# Altium footprint library Connector_PinHeader_2.54mm.PcbLib: 278 footprints (part 18 of 18)
Each footprint in its own frame and in the unit in brackets; x right, y up, seen from the top. Pads: shape width x height; smd on the part's side, far side on the other; paste and mask are expansions set on the pad; w line width, h text height; cw(c..) or ccw(c..) is an arc to the next point about the centre after c.
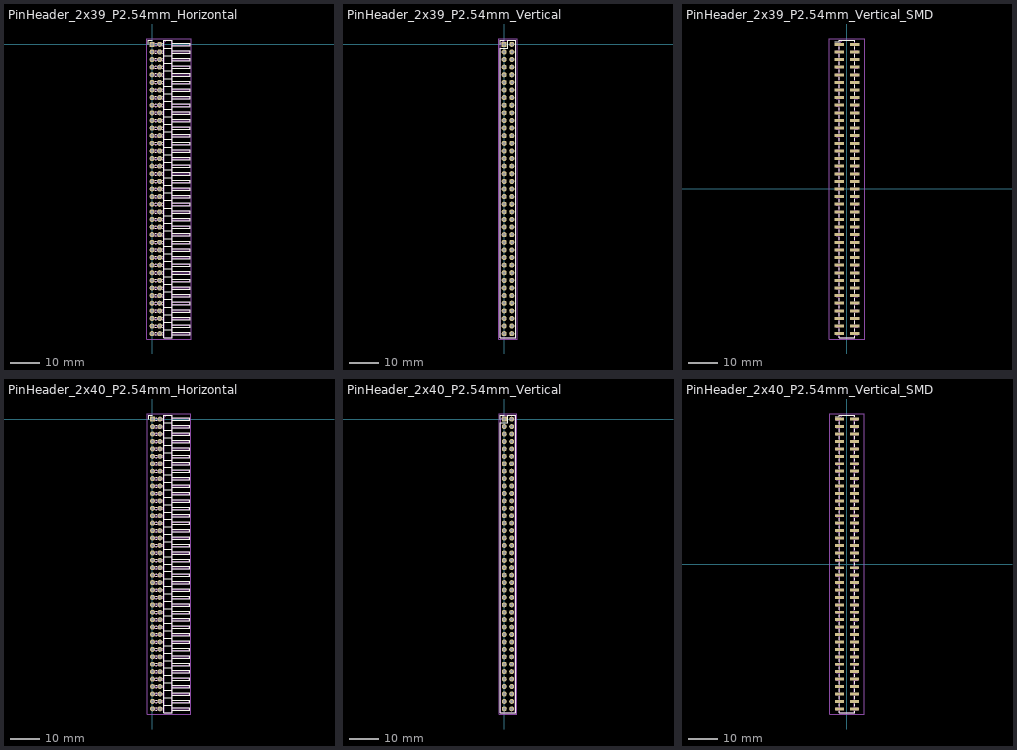
[diagram p17: the footprints below, top view; thin cyan lines are the x and y axes]

## PinHeader_2x39_P2.54mm_Horizontal [mm]
pads (78):
  rect 1.7x1.7 hole 1: 1(0,0)
  round 1.7 hole 1: 2(2.54,0) 3(0,-2.54) 4(2.54,-2.54) 5(0,-5.08) 6(2.54,-5.08) 7(0,-7.62) 8(2.54,-7.62) 9(0,-10.16) 10(2.54,-10.16) 11(0,-12.7) 12(2.54,-12.7) 13(0,-15.24) 14(2.54,-15.24) 15(0,-17.78) 16(2.54,-17.78) 17(0,-20.32) 18(2.54,-20.32) 19(0,-22.86) 20(2.54,-22.86) 21(0,-25.4) 22(2.54,-25.4) 23(0,-27.94) 24(2.54,-27.94) 25(0,-30.48) 26(2.54,-30.48) 27(0,-33.02) 28(2.54,-33.02) 29(0,-35.56) 30(2.54,-35.56) 31(0,-38.1) 32(2.54,-38.1) 33(0,-40.64) 34(2.54,-40.64) 35(0,-43.18) 36(2.54,-43.18) 37(0,-45.72) 38(2.54,-45.72) 39(0,-48.26) 40(2.54,-48.26) 41(0,-50.8) 42(2.54,-50.8) 43(0,-53.34) 44(2.54,-53.34) 45(0,-55.88) 46(2.54,-55.88) 47(0,-58.42) 48(2.54,-58.42) 49(0,-60.96) 50(2.54,-60.96) 51(0,-63.5) 52(2.54,-63.5) 53(0,-66.04) 54(2.54,-66.04) 55(0,-68.58) 56(2.54,-68.58) 57(0,-71.12) 58(2.54,-71.12) 59(0,-73.66) 60(2.54,-73.66) 61(0,-76.2) 62(2.54,-76.2) 63(0,-78.74) 64(2.54,-78.74) 65(0,-81.28) 66(2.54,-81.28) 67(0,-83.82) 68(2.54,-83.82) 69(0,-86.36) 70(2.54,-86.36) 71(0,-88.9) 72(2.54,-88.9) 73(0,-91.44) 74(2.54,-91.44) 75(0,-93.98) 76(2.54,-93.98) 77(0,-96.52) 78(2.54,-96.52)
F.SilkS:
  drawing of 318 lines, arcs and shapes, not listed
Top Assembly:
  drawing of 239 lines, arcs and shapes, not listed
  text "'.Designator'" at 6.15,-52.307 h1
Top Courtyard:
  lines w0.254: -1.77,-98.29 13.09,-98.29 13.09,1.77 -1.77,1.77 -1.77,-98.29
Top Designator:
  text ".Designator" at -1.958,-48.768 h1.52

## PinHeader_2x39_P2.54mm_Vertical [mm]
pads (78):
  rect 1.7x1.7 hole 1: 1(0,0)
  round 1.7 hole 1: 2(2.54,0) 3(0,-2.54) 4(2.54,-2.54) 5(0,-5.08) 6(2.54,-5.08) 7(0,-7.62) 8(2.54,-7.62) 9(0,-10.16) 10(2.54,-10.16) 11(0,-12.7) 12(2.54,-12.7) 13(0,-15.24) 14(2.54,-15.24) 15(0,-17.78) 16(2.54,-17.78) 17(0,-20.32) 18(2.54,-20.32) 19(0,-22.86) 20(2.54,-22.86) 21(0,-25.4) 22(2.54,-25.4) 23(0,-27.94) 24(2.54,-27.94) 25(0,-30.48) 26(2.54,-30.48) 27(0,-33.02) 28(2.54,-33.02) 29(0,-35.56) 30(2.54,-35.56) 31(0,-38.1) 32(2.54,-38.1) 33(0,-40.64) 34(2.54,-40.64) 35(0,-43.18) 36(2.54,-43.18) 37(0,-45.72) 38(2.54,-45.72) 39(0,-48.26) 40(2.54,-48.26) 41(0,-50.8) 42(2.54,-50.8) 43(0,-53.34) 44(2.54,-53.34) 45(0,-55.88) 46(2.54,-55.88) 47(0,-58.42) 48(2.54,-58.42) 49(0,-60.96) 50(2.54,-60.96) 51(0,-63.5) 52(2.54,-63.5) 53(0,-66.04) 54(2.54,-66.04) 55(0,-68.58) 56(2.54,-68.58) 57(0,-71.12) 58(2.54,-71.12) 59(0,-73.66) 60(2.54,-73.66) 61(0,-76.2) 62(2.54,-76.2) 63(0,-78.74) 64(2.54,-78.74) 65(0,-81.28) 66(2.54,-81.28) 67(0,-83.82) 68(2.54,-83.82) 69(0,-86.36) 70(2.54,-86.36) 71(0,-88.9) 72(2.54,-88.9) 73(0,-91.44) 74(2.54,-91.44) 75(0,-93.98) 76(2.54,-93.98) 77(0,-96.52) 78(2.54,-96.52)
F.SilkS:
  lines w0.254: -1.38,0 -1.38,1.38 0,1.38 ; -1.38,-97.9 3.92,-97.9 3.92,1.38 1.27,1.38 1.27,-1.27 -1.38,-1.27 -1.38,-97.9
Top Assembly:
  lines w0.254: -1.27,-97.79 3.81,-97.79 3.81,1.27 0,1.27 -1.27,0 -1.27,-97.79
  text "'.Designator'" at 2.11,-52.307 h1
Top Courtyard:
  lines w0.254: -1.77,-98.29 4.32,-98.29 4.32,1.77 -1.77,1.77 -1.77,-98.29
Top Designator:
  text ".Designator" at -6.343,-48.768 h1.52

## PinHeader_2x39_P2.54mm_Vertical_SMD [mm]
pads (78):
  rect 3.15x1 smd: 1(-2.525,48.26) 2(2.525,48.26) 3(-2.525,45.72) 4(2.525,45.72) 5(-2.525,43.18) 6(2.525,43.18) 7(-2.525,40.64) 8(2.525,40.64) 9(-2.525,38.1) 10(2.525,38.1) 11(-2.525,35.56) 12(2.525,35.56) 13(-2.525,33.02) 14(2.525,33.02) 15(-2.525,30.48) 16(2.525,30.48) 17(-2.525,27.94) 18(2.525,27.94) 19(-2.525,25.4) 20(2.525,25.4) 21(-2.525,22.86) 22(2.525,22.86) 23(-2.525,20.32) 24(2.525,20.32) 25(-2.525,17.78) 26(2.525,17.78) 27(-2.525,15.24) 28(2.525,15.24) 29(-2.525,12.7) 30(2.525,12.7) 31(-2.525,10.16) 32(2.525,10.16) 33(-2.525,7.62) 34(2.525,7.62) 35(-2.525,5.08) 36(2.525,5.08) 37(-2.525,2.54) 38(2.525,2.54) 39(-2.525,0) 40(2.525,0) 41(-2.525,-2.54) 42(2.525,-2.54) 43(-2.525,-5.08) 44(2.525,-5.08) 45(-2.525,-7.62) 46(2.525,-7.62) 47(-2.525,-10.16) 48(2.525,-10.16) 49(-2.525,-12.7) 50(2.525,-12.7) 51(-2.525,-15.24) 52(2.525,-15.24) 53(-2.525,-17.78) 54(2.525,-17.78) 55(-2.525,-20.32) 56(2.525,-20.32) 57(-2.525,-22.86) 58(2.525,-22.86) 59(-2.525,-25.4) 60(2.525,-25.4) 61(-2.525,-27.94) 62(2.525,-27.94) 63(-2.525,-30.48) 64(2.525,-30.48) 65(-2.525,-33.02) 66(2.525,-33.02) 67(-2.525,-35.56) 68(2.525,-35.56) 69(-2.525,-38.1) 70(2.525,-38.1) 71(-2.525,-40.64) 72(2.525,-40.64) 73(-2.525,-43.18) 74(2.525,-43.18) 75(-2.525,-45.72) 76(2.525,-45.72) 77(-2.525,-48.26) 78(2.525,-48.26)
F.SilkS:
  lines w0.254: -4.04,49.07 -2.65,49.07 -2.65,49.64 2.65,49.64 2.65,49.07 ; -2.65,-49.07 -2.65,-49.64 2.65,-49.64 2.65,-49.07 ; -2.65,-47.45 -2.65,-46.53 ; -2.65,-44.91 -2.65,-43.99 ; -2.65,-42.37 -2.65,-41.45 ; -2.65,-39.83 -2.65,-38.91 ; -2.65,-37.29 -2.65,-36.37 ; -2.65,-34.75 -2.65,-33.83 ; -2.65,-32.21 -2.65,-31.29 ; -2.65,-29.67 -2.65,-28.75 ; -2.65,-27.13 -2.65,-26.21 ; -2.65,-24.59 -2.65,-23.67 ; -2.65,-22.05 -2.65,-21.13 ; -2.65,-19.51 -2.65,-18.59 ; -2.65,-16.97 -2.65,-16.05 ; -2.65,-14.43 -2.65,-13.51 ; -2.65,-11.89 -2.65,-10.97 ; -2.65,-9.35 -2.65,-8.43 ; -2.65,-6.81 -2.65,-5.89 ; -2.65,-4.27 -2.65,-3.35 ; -2.65,-1.73 -2.65,-0.81 ; -2.65,0.81 -2.65,1.73 ; -2.65,3.35 -2.65,4.27 ; -2.65,5.89 -2.65,6.81 ; -2.65,8.43 -2.65,9.35 ; -2.65,10.97 -2.65,11.89 ; -2.65,13.51 -2.65,14.43 ; -2.65,16.05 -2.65,16.97 ; -2.65,18.59 -2.65,19.51 ; -2.65,21.13 -2.65,22.05 ; -2.65,23.67 -2.65,24.59 ; -2.65,26.21 -2.65,27.13 ; -2.65,28.75 -2.65,29.67 ; -2.65,31.29 -2.65,32.21 ; -2.65,33.83 -2.65,34.75 ; -2.65,36.37 -2.65,37.29 ; -2.65,38.91 -2.65,39.83 ; -2.65,41.45 -2.65,42.37 ; -2.65,43.99 -2.65,44.91 ; -2.65,46.53 -2.65,47.45 ; 2.65,-47.45 2.65,-46.53 ; 2.65,-44.91 2.65,-43.99 ; 2.65,-42.37 2.65,-41.45 ; 2.65,-39.83 2.65,-38.91 ; 2.65,-37.29 2.65,-36.37 ; 2.65,-34.75 2.65,-33.83 ; 2.65,-32.21 2.65,-31.29 ; 2.65,-29.67 2.65,-28.75 ; 2.65,-27.13 2.65,-26.21 ; 2.65,-24.59 2.65,-23.67 ; 2.65,-22.05 2.65,-21.13 ; 2.65,-19.51 2.65,-18.59 ; 2.65,-16.97 2.65,-16.05 ; 2.65,-14.43 2.65,-13.51 ; 2.65,-11.89 2.65,-10.97 ; 2.65,-9.35 2.65,-8.43 ; 2.65,-6.81 2.65,-5.89 ; 2.65,-4.27 2.65,-3.35 ; 2.65,-1.73 2.65,-0.81 ; 2.65,0.81 2.65,1.73 ; 2.65,3.35 2.65,4.27 ; 2.65,5.89 2.65,6.81 ; 2.65,8.43 2.65,9.35 ; 2.65,10.97 2.65,11.89 ; 2.65,13.51 2.65,14.43 ; 2.65,16.05 2.65,16.97 ; 2.65,18.59 2.65,19.51 ; 2.65,21.13 2.65,22.05 ; 2.65,23.67 2.65,24.59 ; 2.65,26.21 2.65,27.13 ; 2.65,28.75 2.65,29.67 ; 2.65,31.29 2.65,32.21 ; 2.65,33.83 2.65,34.75 ; 2.65,36.37 2.65,37.29 ; 2.65,38.91 2.65,39.83 ; 2.65,41.45 2.65,42.37 ; 2.65,43.99 2.65,44.91 ; 2.65,46.53 2.65,47.45
Top Assembly:
  drawing of 239 lines, arcs and shapes, not listed
  text "'.Designator'" at 0.84,-4.047 h1
Top Courtyard:
  lines w0.254: -5.87,-50.03 5.88,-50.03 5.88,50.03 -5.87,50.03 -5.87,-50.03
Top Designator:
  text ".Designator" at -7.613,-0.508 h1.52

## PinHeader_2x40_P2.54mm_Horizontal [mm]
pads (80):
  rect 1.7x1.7 hole 1: 1(0,0)
  round 1.7 hole 1: 2(2.54,0) 3(0,-2.54) 4(2.54,-2.54) 5(0,-5.08) 6(2.54,-5.08) 7(0,-7.62) 8(2.54,-7.62) 9(0,-10.16) 10(2.54,-10.16) 11(0,-12.7) 12(2.54,-12.7) 13(0,-15.24) 14(2.54,-15.24) 15(0,-17.78) 16(2.54,-17.78) 17(0,-20.32) 18(2.54,-20.32) 19(0,-22.86) 20(2.54,-22.86) 21(0,-25.4) 22(2.54,-25.4) 23(0,-27.94) 24(2.54,-27.94) 25(0,-30.48) 26(2.54,-30.48) 27(0,-33.02) 28(2.54,-33.02) 29(0,-35.56) 30(2.54,-35.56) 31(0,-38.1) 32(2.54,-38.1) 33(0,-40.64) 34(2.54,-40.64) 35(0,-43.18) 36(2.54,-43.18) 37(0,-45.72) 38(2.54,-45.72) 39(0,-48.26) 40(2.54,-48.26) 41(0,-50.8) 42(2.54,-50.8) 43(0,-53.34) 44(2.54,-53.34) 45(0,-55.88) 46(2.54,-55.88) 47(0,-58.42) 48(2.54,-58.42) 49(0,-60.96) 50(2.54,-60.96) 51(0,-63.5) 52(2.54,-63.5) 53(0,-66.04) 54(2.54,-66.04) 55(0,-68.58) 56(2.54,-68.58) 57(0,-71.12) 58(2.54,-71.12) 59(0,-73.66) 60(2.54,-73.66) 61(0,-76.2) 62(2.54,-76.2) 63(0,-78.74) 64(2.54,-78.74) 65(0,-81.28) 66(2.54,-81.28) 67(0,-83.82) 68(2.54,-83.82) 69(0,-86.36) 70(2.54,-86.36) 71(0,-88.9) 72(2.54,-88.9) 73(0,-91.44) 74(2.54,-91.44) 75(0,-93.98) 76(2.54,-93.98) 77(0,-96.52) 78(2.54,-96.52) 79(0,-99.06) 80(2.54,-99.06)
F.SilkS:
  drawing of 326 lines, arcs and shapes, not listed
Top Assembly:
  drawing of 245 lines, arcs and shapes, not listed
  text "'.Designator'" at 6.15,-53.577 h1
Top Courtyard:
  lines w0.254: -1.77,-100.83 13.09,-100.83 13.09,1.77 -1.77,1.77 -1.77,-100.83
Top Designator:
  text ".Designator" at -1.958,-50.038 h1.52

## PinHeader_2x40_P2.54mm_Vertical [mm]
pads (80):
  rect 1.7x1.7 hole 1: 1(0,0)
  round 1.7 hole 1: 2(2.54,0) 3(0,-2.54) 4(2.54,-2.54) 5(0,-5.08) 6(2.54,-5.08) 7(0,-7.62) 8(2.54,-7.62) 9(0,-10.16) 10(2.54,-10.16) 11(0,-12.7) 12(2.54,-12.7) 13(0,-15.24) 14(2.54,-15.24) 15(0,-17.78) 16(2.54,-17.78) 17(0,-20.32) 18(2.54,-20.32) 19(0,-22.86) 20(2.54,-22.86) 21(0,-25.4) 22(2.54,-25.4) 23(0,-27.94) 24(2.54,-27.94) 25(0,-30.48) 26(2.54,-30.48) 27(0,-33.02) 28(2.54,-33.02) 29(0,-35.56) 30(2.54,-35.56) 31(0,-38.1) 32(2.54,-38.1) 33(0,-40.64) 34(2.54,-40.64) 35(0,-43.18) 36(2.54,-43.18) 37(0,-45.72) 38(2.54,-45.72) 39(0,-48.26) 40(2.54,-48.26) 41(0,-50.8) 42(2.54,-50.8) 43(0,-53.34) 44(2.54,-53.34) 45(0,-55.88) 46(2.54,-55.88) 47(0,-58.42) 48(2.54,-58.42) 49(0,-60.96) 50(2.54,-60.96) 51(0,-63.5) 52(2.54,-63.5) 53(0,-66.04) 54(2.54,-66.04) 55(0,-68.58) 56(2.54,-68.58) 57(0,-71.12) 58(2.54,-71.12) 59(0,-73.66) 60(2.54,-73.66) 61(0,-76.2) 62(2.54,-76.2) 63(0,-78.74) 64(2.54,-78.74) 65(0,-81.28) 66(2.54,-81.28) 67(0,-83.82) 68(2.54,-83.82) 69(0,-86.36) 70(2.54,-86.36) 71(0,-88.9) 72(2.54,-88.9) 73(0,-91.44) 74(2.54,-91.44) 75(0,-93.98) 76(2.54,-93.98) 77(0,-96.52) 78(2.54,-96.52) 79(0,-99.06) 80(2.54,-99.06)
F.SilkS:
  lines w0.254: -1.38,0 -1.38,1.38 0,1.38 ; -1.38,-100.44 3.92,-100.44 3.92,1.38 1.27,1.38 1.27,-1.27 -1.38,-1.27 -1.38,-100.44
Top Assembly:
  lines w0.254: -1.27,-100.33 3.81,-100.33 3.81,1.27 0,1.27 -1.27,0 -1.27,-100.33
  text "'.Designator'" at 2.11,-53.577 h1
Top Courtyard:
  lines w0.254: -1.77,-100.83 4.32,-100.83 4.32,1.77 -1.77,1.77 -1.77,-100.83
Top Designator:
  text ".Designator" at -6.343,-50.038 h1.52

## PinHeader_2x40_P2.54mm_Vertical_SMD [mm]
pads (80):
  rect 3.15x1 smd: 1(-2.525,49.53) 2(2.525,49.53) 3(-2.525,46.99) 4(2.525,46.99) 5(-2.525,44.45) 6(2.525,44.45) 7(-2.525,41.91) 8(2.525,41.91) 9(-2.525,39.37) 10(2.525,39.37) 11(-2.525,36.83) 12(2.525,36.83) 13(-2.525,34.29) 14(2.525,34.29) 15(-2.525,31.75) 16(2.525,31.75) 17(-2.525,29.21) 18(2.525,29.21) 19(-2.525,26.67) 20(2.525,26.67) 21(-2.525,24.13) 22(2.525,24.13) 23(-2.525,21.59) 24(2.525,21.59) 25(-2.525,19.05) 26(2.525,19.05) 27(-2.525,16.51) 28(2.525,16.51) 29(-2.525,13.97) 30(2.525,13.97) 31(-2.525,11.43) 32(2.525,11.43) 33(-2.525,8.89) 34(2.525,8.89) 35(-2.525,6.35) 36(2.525,6.35) 37(-2.525,3.81) 38(2.525,3.81) 39(-2.525,1.27) 40(2.525,1.27) 41(-2.525,-1.27) 42(2.525,-1.27) 43(-2.525,-3.81) 44(2.525,-3.81) 45(-2.525,-6.35) 46(2.525,-6.35) 47(-2.525,-8.89) 48(2.525,-8.89) 49(-2.525,-11.43) 50(2.525,-11.43) 51(-2.525,-13.97) 52(2.525,-13.97) 53(-2.525,-16.51) 54(2.525,-16.51) 55(-2.525,-19.05) 56(2.525,-19.05) 57(-2.525,-21.59) 58(2.525,-21.59) 59(-2.525,-24.13) 60(2.525,-24.13) 61(-2.525,-26.67) 62(2.525,-26.67) 63(-2.525,-29.21) 64(2.525,-29.21) 65(-2.525,-31.75) 66(2.525,-31.75) 67(-2.525,-34.29) 68(2.525,-34.29) 69(-2.525,-36.83) 70(2.525,-36.83) 71(-2.525,-39.37) 72(2.525,-39.37) 73(-2.525,-41.91) 74(2.525,-41.91) 75(-2.525,-44.45) 76(2.525,-44.45) 77(-2.525,-46.99) 78(2.525,-46.99) 79(-2.525,-49.53) 80(2.525,-49.53)
F.SilkS:
  lines w0.254: -4.04,50.34 -2.65,50.34 -2.65,50.91 2.65,50.91 2.65,50.34 ; -2.65,-50.34 -2.65,-50.91 2.65,-50.91 2.65,-50.34 ; -2.65,-48.72 -2.65,-47.8 ; -2.65,-46.18 -2.65,-45.26 ; -2.65,-43.64 -2.65,-42.72 ; -2.65,-41.1 -2.65,-40.18 ; -2.65,-38.56 -2.65,-37.64 ; -2.65,-36.02 -2.65,-35.1 ; -2.65,-33.48 -2.65,-32.56 ; -2.65,-30.94 -2.65,-30.02 ; -2.65,-28.4 -2.65,-27.48 ; -2.65,-25.86 -2.65,-24.94 ; -2.65,-23.32 -2.65,-22.4 ; -2.65,-20.78 -2.65,-19.86 ; -2.65,-18.24 -2.65,-17.32 ; -2.65,-15.7 -2.65,-14.78 ; -2.65,-13.16 -2.65,-12.24 ; -2.65,-10.62 -2.65,-9.7 ; -2.65,-8.08 -2.65,-7.16 ; -2.65,-5.54 -2.65,-4.62 ; -2.65,-3 -2.65,-2.08 ; -2.65,-0.46 -2.65,0.46 ; -2.65,2.08 -2.65,3 ; -2.65,4.62 -2.65,5.54 ; -2.65,7.16 -2.65,8.08 ; -2.65,9.7 -2.65,10.62 ; -2.65,12.24 -2.65,13.16 ; -2.65,14.78 -2.65,15.7 ; -2.65,17.32 -2.65,18.24 ; -2.65,19.86 -2.65,20.78 ; -2.65,22.4 -2.65,23.32 ; -2.65,24.94 -2.65,25.86 ; -2.65,27.48 -2.65,28.4 ; -2.65,30.02 -2.65,30.94 ; -2.65,32.56 -2.65,33.48 ; -2.65,35.1 -2.65,36.02 ; -2.65,37.64 -2.65,38.56 ; -2.65,40.18 -2.65,41.1 ; -2.65,42.72 -2.65,43.64 ; -2.65,45.26 -2.65,46.18 ; -2.65,47.8 -2.65,48.72 ; 2.65,-48.72 2.65,-47.8 ; 2.65,-46.18 2.65,-45.26 ; 2.65,-43.64 2.65,-42.72 ; 2.65,-41.1 2.65,-40.18 ; 2.65,-38.56 2.65,-37.64 ; 2.65,-36.02 2.65,-35.1 ; 2.65,-33.48 2.65,-32.56 ; 2.65,-30.94 2.65,-30.02 ; 2.65,-28.4 2.65,-27.48 ; 2.65,-25.86 2.65,-24.94 ; 2.65,-23.32 2.65,-22.4 ; 2.65,-20.78 2.65,-19.86 ; 2.65,-18.24 2.65,-17.32 ; 2.65,-15.7 2.65,-14.78 ; 2.65,-13.16 2.65,-12.24 ; 2.65,-10.62 2.65,-9.7 ; 2.65,-8.08 2.65,-7.16 ; 2.65,-5.54 2.65,-4.62 ; 2.65,-3 2.65,-2.08 ; 2.65,-0.46 2.65,0.46 ; 2.65,2.08 2.65,3 ; 2.65,4.62 2.65,5.54 ; 2.65,7.16 2.65,8.08 ; 2.65,9.7 2.65,10.62 ; 2.65,12.24 2.65,13.16 ; 2.65,14.78 2.65,15.7 ; 2.65,17.32 2.65,18.24 ; 2.65,19.86 2.65,20.78 ; 2.65,22.4 2.65,23.32 ; 2.65,24.94 2.65,25.86 ; 2.65,27.48 2.65,28.4 ; 2.65,30.02 2.65,30.94 ; 2.65,32.56 2.65,33.48 ; 2.65,35.1 2.65,36.02 ; 2.65,37.64 2.65,38.56 ; 2.65,40.18 2.65,41.1 ; 2.65,42.72 2.65,43.64 ; 2.65,45.26 2.65,46.18 ; 2.65,47.8 2.65,48.72
Top Assembly:
  drawing of 245 lines, arcs and shapes, not listed
  text "'.Designator'" at 0.84,-4.047 h1
Top Courtyard:
  lines w0.254: -5.87,-51.3 5.88,-51.3 5.88,51.3 -5.87,51.3 -5.87,-51.3
Top Designator:
  text ".Designator" at -7.613,-0.508 h1.52